# Altium integrated library DS3231MZ_.IntLib: 1 symbol
Pins are listed as number, name and electrical type; pins without a type are passive.

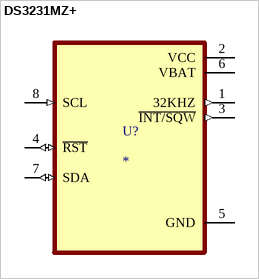
[diagram p0: symbol DS3231MZ+]

## DS3231MZ+
designator U?
Â±5ppm, I2C Real-Time Clock; MF: Analog Devices; MP: DS3231MZ+; SnapEDA_Link: https://www.snapeda.com/parts/DS3231MZ+/Analog+Devices/view-part/?ref=snap; Package: SOIC-8 Maxim; Value: *; Check_prices: https://www.snapeda.com/parts/DS3231MZ+/Analog+Devices/view-part/?ref=eda
footprint SOIC127P600X175-8N
pins: 1 32KHZ (out), 2 VCC (power), 3 ~{INT/SQW} (out), 4 ~{RST} (io), 5 GND (power), 6 VBAT (power), 7 SDA (io), 8 SCL (in)